# Altium integrated library Capacitors - Ceramic - 01005.IntLib: 571 symbols (part 12 of 13)
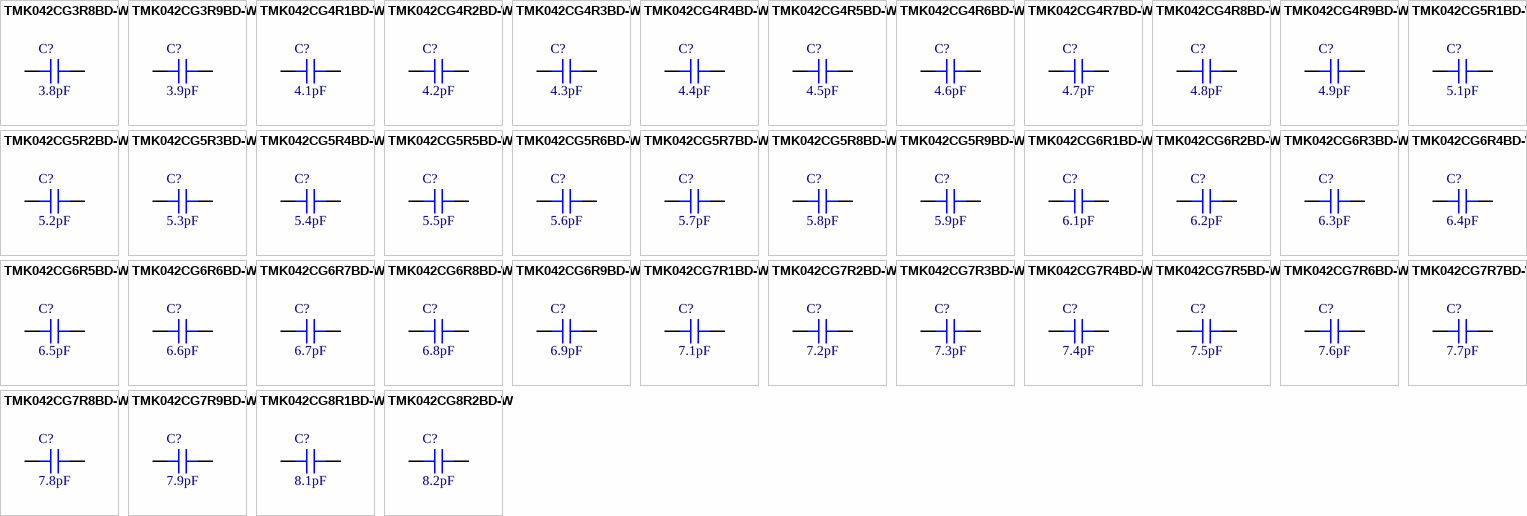
[diagram p25: symbols TMK042CG3R8BD-W to TMK042CG8R2BD-W]

## TMK042CG7R6BD-W
designator C?, comment 7.6pF
CAP CER 7.6PF 25V C0G/NP0 01005; Part Number: TMK042CG7R6BD-W; Manufacturer: Taiyo Yuden; Temperature Coefficient: C0G, NP0; Tolerance: ±0.1pF; Value: 7.6pF; Applications: General Purpose; Capacitance: 7.6pF; ComponentLink1Description: Datasheet; ComponentLink1URL: https://ds.yuden.co.jp/TYCOMPAS/ut/detail?pn=TMK042CG7R6BD-W &u=M; ComponentLink2Description: DigiKey Link; ComponentLink2URL: http://digikey.com/product-detail/en/taiyo-yuden/TMK042CG7R6BD-W/587-5731-1-ND/7431259; Device Package: 01005 (0402 Metric); LastUpdated: 9/2/2020 1:27:43 AM; Lifecycle Status: Active; Minimum Order: 1; Mounting Type: Surface Mount, MLCC; Operating Temperature: -55°C ~ 125°C; Package / Case: 01005 (0402 Metric); Packaging: TapeAndReel; Part Status: Active; Price: 0.01; Series: M; Size / Dimension: 0.016" L x 0.008" W (0.40mm x 0.20mm); Supplier 1: DigiKey; Supplier Part Number 1: 587-5731-1-ND; Thickness (Max): 0.009" (0.22mm); Voltage - Rated: 25V
footprint CAP 01005_0402
pins: 1, 2

## TMK042CG7R7BD-W
designator C?, comment 7.7pF
CAP CER 7.7PF 25V C0G/NP0 01005; Part Number: TMK042CG7R7BD-W; Manufacturer: Taiyo Yuden; Temperature Coefficient: C0G, NP0; Tolerance: ±0.1pF; Value: 7.7pF; Applications: General Purpose; Capacitance: 7.7pF; ComponentLink1Description: Datasheet; ComponentLink1URL: https://ds.yuden.co.jp/TYCOMPAS/ut/detail?pn=TMK042CG7R7BD-W &u=M; ComponentLink2Description: DigiKey Link; ComponentLink2URL: http://digikey.com/product-detail/en/taiyo-yuden/TMK042CG7R7BD-W/587-5732-1-ND/7431260; Device Package: 01005 (0402 Metric); LastUpdated: 9/2/2020 1:27:43 AM; Lifecycle Status: Active; Minimum Order: 1; Mounting Type: Surface Mount, MLCC; Operating Temperature: -55°C ~ 125°C; Package / Case: 01005 (0402 Metric); Packaging: TapeAndReel; Part Status: Active; Price: 0.01; Series: M; Size / Dimension: 0.016" L x 0.008" W (0.40mm x 0.20mm); Supplier 1: DigiKey; Supplier Part Number 1: 587-5732-1-ND; Thickness (Max): 0.009" (0.22mm); Voltage - Rated: 25V
footprint CAP 01005_0402
pins: 1, 2

## TMK042CG7R8BD-W
designator C?, comment 7.8pF
CAP CER 7.8PF 25V C0G/NP0 01005; Part Number: TMK042CG7R8BD-W; Manufacturer: Taiyo Yuden; Temperature Coefficient: C0G, NP0; Tolerance: ±0.1pF; Value: 7.8pF; Applications: General Purpose; Capacitance: 7.8pF; ComponentLink1Description: Datasheet; ComponentLink1URL: https://ds.yuden.co.jp/TYCOMPAS/ut/detail?pn=TMK042CG7R8BD-W &u=M; ComponentLink2Description: DigiKey Link; ComponentLink2URL: http://digikey.com/product-detail/en/taiyo-yuden/TMK042CG7R8BD-W/587-5733-1-ND/7431261; Device Package: 01005 (0402 Metric); LastUpdated: 9/2/2020 1:27:43 AM; Lifecycle Status: Active; Minimum Order: 1; Mounting Type: Surface Mount, MLCC; Operating Temperature: -55°C ~ 125°C; Package / Case: 01005 (0402 Metric); Packaging: TapeAndReel; Part Status: Active; Price: 0.01; Series: M; Size / Dimension: 0.016" L x 0.008" W (0.40mm x 0.20mm); Supplier 1: DigiKey; Supplier Part Number 1: 587-5733-1-ND; Thickness (Max): 0.009" (0.22mm); Voltage - Rated: 25V
footprint CAP 01005_0402
pins: 1, 2

## TMK042CG7R9BD-W
designator C?, comment 7.9pF
CAP CER 7.9PF 25V C0G/NP0 01005; Part Number: TMK042CG7R9BD-W; Manufacturer: Taiyo Yuden; Temperature Coefficient: C0G, NP0; Tolerance: ±0.1pF; Value: 7.9pF; Applications: General Purpose; Capacitance: 7.9pF; ComponentLink1Description: Datasheet; ComponentLink1URL: https://ds.yuden.co.jp/TYCOMPAS/ut/detail?pn=TMK042CG7R9BD-W &u=M; ComponentLink2Description: DigiKey Link; ComponentLink2URL: http://digikey.com/product-detail/en/taiyo-yuden/TMK042CG7R9BD-W/587-5734-1-ND/7431262; Device Package: 01005 (0402 Metric); LastUpdated: 9/2/2020 1:27:43 AM; Lifecycle Status: Active; Minimum Order: 1; Mounting Type: Surface Mount, MLCC; Operating Temperature: -55°C ~ 125°C; Package / Case: 01005 (0402 Metric); Packaging: TapeAndReel; Part Status: Active; Price: 0.01; Series: M; Size / Dimension: 0.016" L x 0.008" W (0.40mm x 0.20mm); Supplier 1: DigiKey; Supplier Part Number 1: 587-5734-1-ND; Thickness (Max): 0.009" (0.22mm); Voltage - Rated: 25V
footprint CAP 01005_0402
pins: 1, 2

## TMK042CG8R1BD-W
designator C?, comment 8.1pF
CAP CER 8.1PF 25V C0G/NP0 01005; Part Number: TMK042CG8R1BD-W; Manufacturer: Taiyo Yuden; Temperature Coefficient: C0G, NP0; Tolerance: ±0.1pF; Value: 8.1pF; Applications: General Purpose; Capacitance: 8.1pF; ComponentLink1Description: Datasheet; ComponentLink1URL: https://ds.yuden.co.jp/TYCOMPAS/ut/detail?pn=TMK042CG8R1BD-W &u=M; ComponentLink2Description: DigiKey Link; ComponentLink2URL: http://digikey.com/product-detail/en/taiyo-yuden/TMK042CG8R1BD-W/587-5736-1-ND/7431264; Device Package: 01005 (0402 Metric); LastUpdated: 9/2/2020 1:27:43 AM; Lifecycle Status: Active; Minimum Order: 1; Mounting Type: Surface Mount, MLCC; Operating Temperature: -55°C ~ 125°C; Package / Case: 01005 (0402 Metric); Packaging: TapeAndReel; Part Status: Active; Price: 0.01; Series: M; Size / Dimension: 0.016" L x 0.008" W (0.40mm x 0.20mm); Supplier 1: DigiKey; Supplier Part Number 1: 587-5736-1-ND; Thickness (Max): 0.009" (0.22mm); Voltage - Rated: 25V
footprint CAP 01005_0402
pins: 1, 2

## TMK042CG8R2BD-W
designator C?, comment 8.2pF
CAP CER 8.2PF 25V C0G/NP0 01005; Part Number: TMK042CG8R2BD-W; Manufacturer: Taiyo Yuden; Temperature Coefficient: C0G, NP0; Tolerance: ±0.1pF; Value: 8.2pF; Applications: General Purpose; Capacitance: 8.2pF; ComponentLink1Description: Datasheet; ComponentLink1URL: https://ds.yuden.co.jp/TYCOMPAS/ut/detail?pn=TMK042CG8R2BD-W &u=M; ComponentLink2Description: DigiKey Link; ComponentLink2URL: http://digikey.com/product-detail/en/taiyo-yuden/TMK042CG8R2BD-W/587-5737-1-ND/7431265; Device Package: 01005 (0402 Metric); LastUpdated: 9/2/2020 1:27:43 AM; Lifecycle Status: Active; Minimum Order: 1; Mounting Type: Surface Mount, MLCC; Operating Temperature: -55°C ~ 125°C; Package / Case: 01005 (0402 Metric); Packaging: TapeAndReel; Part Status: Active; Price: 0.01; Series: M; Size / Dimension: 0.016" L x 0.008" W (0.40mm x 0.20mm); Supplier 1: DigiKey; Supplier Part Number 1: 587-5737-1-ND; Thickness (Max): 0.009" (0.22mm); Voltage - Rated: 25V
footprint CAP 01005_0402
pins: 1, 2

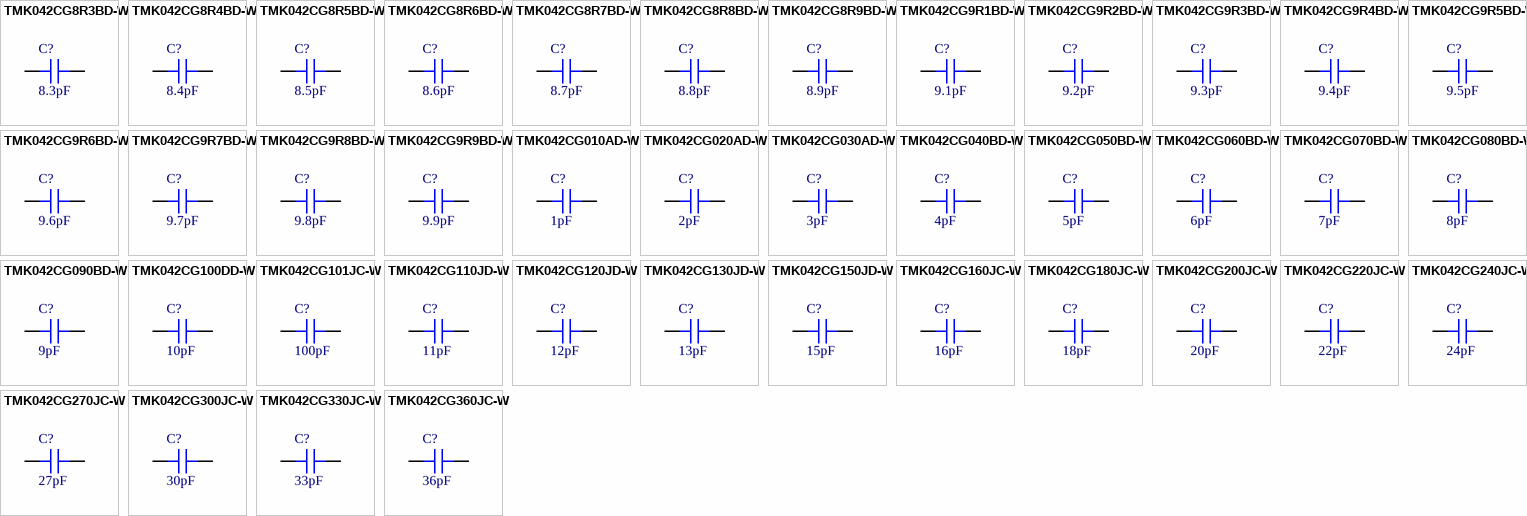
[diagram p13: symbols TMK042CG8R3BD-W to TMK042CG360JC-W]

## TMK042CG8R3BD-W
designator C?, comment 8.3pF
CAP CER 8.3PF 25V C0G/NP0 01005; Part Number: TMK042CG8R3BD-W; Manufacturer: Taiyo Yuden; Temperature Coefficient: C0G, NP0; Tolerance: ±0.1pF; Value: 8.3pF; Applications: General Purpose; Capacitance: 8.3pF; ComponentLink1Description: Datasheet; ComponentLink1URL: https://ds.yuden.co.jp/TYCOMPAS/ut/detail?pn=TMK042CG8R3BD-W &u=M; ComponentLink2Description: DigiKey Link; ComponentLink2URL: http://digikey.com/product-detail/en/taiyo-yuden/TMK042CG8R3BD-W/587-5738-1-ND/7431266; Device Package: 01005 (0402 Metric); LastUpdated: 9/2/2020 1:27:43 AM; Lifecycle Status: Active; Minimum Order: 1; Mounting Type: Surface Mount, MLCC; Operating Temperature: -55°C ~ 125°C; Package / Case: 01005 (0402 Metric); Packaging: TapeAndReel; Part Status: Active; Price: 0.01; Series: M; Size / Dimension: 0.016" L x 0.008" W (0.40mm x 0.20mm); Supplier 1: DigiKey; Supplier Part Number 1: 587-5738-1-ND; Thickness (Max): 0.009" (0.22mm); Voltage - Rated: 25V
footprint CAP 01005_0402
pins: 1, 2

## TMK042CG8R4BD-W
designator C?, comment 8.4pF
CAP CER 8.4PF 25V C0G/NP0 01005; Part Number: TMK042CG8R4BD-W; Manufacturer: Taiyo Yuden; Temperature Coefficient: C0G, NP0; Tolerance: ±0.1pF; Value: 8.4pF; Applications: General Purpose; Capacitance: 8.4pF; ComponentLink1Description: Datasheet; ComponentLink1URL: https://ds.yuden.co.jp/TYCOMPAS/ut/detail?pn=TMK042CG8R4BD-W &u=M; ComponentLink2Description: DigiKey Link; ComponentLink2URL: http://digikey.com/product-detail/en/taiyo-yuden/TMK042CG8R4BD-W/587-5739-1-ND/7431267; Device Package: 01005 (0402 Metric); LastUpdated: 9/2/2020 1:27:43 AM; Lifecycle Status: Active; Minimum Order: 1; Mounting Type: Surface Mount, MLCC; Operating Temperature: -55°C ~ 125°C; Package / Case: 01005 (0402 Metric); Packaging: TapeAndReel; Part Status: Active; Price: 0.01; Series: M; Size / Dimension: 0.016" L x 0.008" W (0.40mm x 0.20mm); Supplier 1: DigiKey; Supplier Part Number 1: 587-5739-1-ND; Thickness (Max): 0.009" (0.22mm); Voltage - Rated: 25V
footprint CAP 01005_0402
pins: 1, 2

## TMK042CG8R5BD-W
designator C?, comment 8.5pF
CAP CER 8.5PF 25V C0G/NP0 01005; Part Number: TMK042CG8R5BD-W; Manufacturer: Taiyo Yuden; Temperature Coefficient: C0G, NP0; Tolerance: ±0.1pF; Value: 8.5pF; Applications: General Purpose; Capacitance: 8.5pF; ComponentLink1Description: Datasheet; ComponentLink1URL: https://ds.yuden.co.jp/TYCOMPAS/ut/detail?pn=TMK042CG8R5BD-W &u=M; ComponentLink2Description: DigiKey Link; ComponentLink2URL: http://digikey.com/product-detail/en/taiyo-yuden/TMK042CG8R5BD-W/587-5740-1-ND/7431268; Device Package: 01005 (0402 Metric); LastUpdated: 9/2/2020 1:27:43 AM; Lifecycle Status: Active; Minimum Order: 1; Mounting Type: Surface Mount, MLCC; Operating Temperature: -55°C ~ 125°C; Package / Case: 01005 (0402 Metric); Packaging: TapeAndReel; Part Status: Active; Price: 0.01; Series: M; Size / Dimension: 0.016" L x 0.008" W (0.40mm x 0.20mm); Supplier 1: DigiKey; Supplier Part Number 1: 587-5740-1-ND; Thickness (Max): 0.009" (0.22mm); Voltage - Rated: 25V
footprint CAP 01005_0402
pins: 1, 2

## TMK042CG8R6BD-W
designator C?, comment 8.6pF
CAP CER 8.6PF 25V C0G/NP0 01005; Part Number: TMK042CG8R6BD-W; Manufacturer: Taiyo Yuden; Temperature Coefficient: C0G, NP0; Tolerance: ±0.1pF; Value: 8.6pF; Applications: General Purpose; Capacitance: 8.6pF; ComponentLink1Description: Datasheet; ComponentLink1URL: https://ds.yuden.co.jp/TYCOMPAS/ut/detail?pn=TMK042CG8R6BD-W &u=M; ComponentLink2Description: DigiKey Link; ComponentLink2URL: http://digikey.com/product-detail/en/taiyo-yuden/TMK042CG8R6BD-W/587-5741-1-ND/7431269; Device Package: 01005 (0402 Metric); LastUpdated: 9/2/2020 1:27:43 AM; Lifecycle Status: Active; Minimum Order: 1; Mounting Type: Surface Mount, MLCC; Operating Temperature: -55°C ~ 125°C; Package / Case: 01005 (0402 Metric); Packaging: TapeAndReel; Part Status: Active; Price: 0.01; Series: M; Size / Dimension: 0.016" L x 0.008" W (0.40mm x 0.20mm); Supplier 1: DigiKey; Supplier Part Number 1: 587-5741-1-ND; Thickness (Max): 0.009" (0.22mm); Voltage - Rated: 25V
footprint CAP 01005_0402
pins: 1, 2

## TMK042CG8R7BD-W
designator C?, comment 8.7pF
CAP CER 8.7PF 25V C0G/NP0 01005; Part Number: TMK042CG8R7BD-W; Manufacturer: Taiyo Yuden; Temperature Coefficient: C0G, NP0; Tolerance: ±0.1pF; Value: 8.7pF; Applications: General Purpose; Capacitance: 8.7pF; ComponentLink1Description: Datasheet; ComponentLink1URL: https://ds.yuden.co.jp/TYCOMPAS/ut/detail?pn=TMK042CG8R7BD-W &u=M; ComponentLink2Description: DigiKey Link; ComponentLink2URL: http://digikey.com/product-detail/en/taiyo-yuden/TMK042CG8R7BD-W/587-5742-1-ND/7431270; Device Package: 01005 (0402 Metric); LastUpdated: 9/2/2020 1:27:43 AM; Lifecycle Status: Active; Minimum Order: 1; Mounting Type: Surface Mount, MLCC; Operating Temperature: -55°C ~ 125°C; Package / Case: 01005 (0402 Metric); Packaging: TapeAndReel; Part Status: Active; Price: 0.01; Series: M; Size / Dimension: 0.016" L x 0.008" W (0.40mm x 0.20mm); Supplier 1: DigiKey; Supplier Part Number 1: 587-5742-1-ND; Thickness (Max): 0.009" (0.22mm); Voltage - Rated: 25V
footprint CAP 01005_0402
pins: 1, 2

## TMK042CG8R8BD-W
designator C?, comment 8.8pF
CAP CER 8.8PF 25V C0G/NP0 01005; Part Number: TMK042CG8R8BD-W; Manufacturer: Taiyo Yuden; Temperature Coefficient: C0G, NP0; Tolerance: ±0.1pF; Value: 8.8pF; Applications: General Purpose; Capacitance: 8.8pF; ComponentLink1Description: Datasheet; ComponentLink1URL: https://ds.yuden.co.jp/TYCOMPAS/ut/detail?pn=TMK042CG8R8BD-W &u=M; ComponentLink2Description: DigiKey Link; ComponentLink2URL: http://digikey.com/product-detail/en/taiyo-yuden/TMK042CG8R8BD-W/587-5743-1-ND/7431271; Device Package: 01005 (0402 Metric); LastUpdated: 9/2/2020 1:27:43 AM; Lifecycle Status: Active; Minimum Order: 1; Mounting Type: Surface Mount, MLCC; Operating Temperature: -55°C ~ 125°C; Package / Case: 01005 (0402 Metric); Packaging: TapeAndReel; Part Status: Active; Price: 0.01; Series: M; Size / Dimension: 0.016" L x 0.008" W (0.40mm x 0.20mm); Supplier 1: DigiKey; Supplier Part Number 1: 587-5743-1-ND; Thickness (Max): 0.009" (0.22mm); Voltage - Rated: 25V
footprint CAP 01005_0402
pins: 1, 2

## TMK042CG8R9BD-W
designator C?, comment 8.9pF
CAP CER 8.9PF 25V C0G/NP0 01005; Part Number: TMK042CG8R9BD-W; Manufacturer: Taiyo Yuden; Temperature Coefficient: C0G, NP0; Tolerance: ±0.1pF; Value: 8.9pF; Applications: General Purpose; Capacitance: 8.9pF; ComponentLink1Description: Datasheet; ComponentLink1URL: https://ds.yuden.co.jp/TYCOMPAS/ut/detail?pn=TMK042CG8R9BD-W &u=M; ComponentLink2Description: DigiKey Link; ComponentLink2URL: http://digikey.com/product-detail/en/taiyo-yuden/TMK042CG8R9BD-W/587-5744-1-ND/7431272; Device Package: 01005 (0402 Metric); LastUpdated: 9/2/2020 1:27:43 AM; Lifecycle Status: Active; Minimum Order: 1; Mounting Type: Surface Mount, MLCC; Operating Temperature: -55°C ~ 125°C; Package / Case: 01005 (0402 Metric); Packaging: TapeAndReel; Part Status: Active; Price: 0.01; Series: M; Size / Dimension: 0.016" L x 0.008" W (0.40mm x 0.20mm); Supplier 1: DigiKey; Supplier Part Number 1: 587-5744-1-ND; Thickness (Max): 0.009" (0.22mm); Voltage - Rated: 25V
footprint CAP 01005_0402
pins: 1, 2

## TMK042CG9R1BD-W
designator C?, comment 9.1pF
CAP CER 9.1PF 25V C0G/NP0 01005; Part Number: TMK042CG9R1BD-W; Manufacturer: Taiyo Yuden; Temperature Coefficient: C0G, NP0; Tolerance: ±0.1pF; Value: 9.1pF; Applications: General Purpose; Capacitance: 9.1pF; ComponentLink1Description: Datasheet; ComponentLink1URL: https://ds.yuden.co.jp/TYCOMPAS/ut/detail?pn=TMK042CG9R1BD-W &u=M; ComponentLink2Description: DigiKey Link; ComponentLink2URL: http://digikey.com/product-detail/en/taiyo-yuden/TMK042CG9R1BD-W/587-5746-1-ND/7431274; Device Package: 01005 (0402 Metric); LastUpdated: 9/2/2020 1:27:43 AM; Lifecycle Status: Active; Minimum Order: 1; Mounting Type: Surface Mount, MLCC; Operating Temperature: -55°C ~ 125°C; Package / Case: 01005 (0402 Metric); Packaging: TapeAndReel; Part Status: Active; Price: 0.01; Series: M; Size / Dimension: 0.016" L x 0.008" W (0.40mm x 0.20mm); Supplier 1: DigiKey; Supplier Part Number 1: 587-5746-1-ND; Thickness (Max): 0.009" (0.22mm); Voltage - Rated: 25V
footprint CAP 01005_0402
pins: 1, 2

## TMK042CG9R2BD-W
designator C?, comment 9.2pF
CAP CER 9.2PF 25V C0G/NP0 01005; Part Number: TMK042CG9R2BD-W; Manufacturer: Taiyo Yuden; Temperature Coefficient: C0G, NP0; Tolerance: ±0.1pF; Value: 9.2pF; Applications: General Purpose; Capacitance: 9.2pF; ComponentLink1Description: Datasheet; ComponentLink1URL: https://ds.yuden.co.jp/TYCOMPAS/ut/detail?pn=TMK042CG9R2BD-W &u=M; ComponentLink2Description: DigiKey Link; ComponentLink2URL: http://digikey.com/product-detail/en/taiyo-yuden/TMK042CG9R2BD-W/587-5747-1-ND/7431275; Device Package: 01005 (0402 Metric); LastUpdated: 9/2/2020 1:27:43 AM; Lifecycle Status: Active; Minimum Order: 1; Mounting Type: Surface Mount, MLCC; Operating Temperature: -55°C ~ 125°C; Package / Case: 01005 (0402 Metric); Packaging: TapeAndReel; Part Status: Active; Price: 0.01; Series: M; Size / Dimension: 0.016" L x 0.008" W (0.40mm x 0.20mm); Supplier 1: DigiKey; Supplier Part Number 1: 587-5747-1-ND; Thickness (Max): 0.009" (0.22mm); Voltage - Rated: 25V
footprint CAP 01005_0402
pins: 1, 2

## TMK042CG9R3BD-W
designator C?, comment 9.3pF
CAP CER 9.3PF 25V C0G/NP0 01005; Part Number: TMK042CG9R3BD-W; Manufacturer: Taiyo Yuden; Temperature Coefficient: C0G, NP0; Tolerance: ±0.1pF; Value: 9.3pF; Applications: General Purpose; Capacitance: 9.3pF; ComponentLink1Description: Datasheet; ComponentLink1URL: https://ds.yuden.co.jp/TYCOMPAS/ut/detail?pn=TMK042CG9R3BD-W &u=M; ComponentLink2Description: DigiKey Link; ComponentLink2URL: http://digikey.com/product-detail/en/taiyo-yuden/TMK042CG9R3BD-W/587-5748-1-ND/7431276; Device Package: 01005 (0402 Metric); LastUpdated: 9/2/2020 1:27:43 AM; Lifecycle Status: Active; Minimum Order: 1; Mounting Type: Surface Mount, MLCC; Operating Temperature: -55°C ~ 125°C; Package / Case: 01005 (0402 Metric); Packaging: TapeAndReel; Part Status: Active; Price: 0.01; Series: M; Size / Dimension: 0.016" L x 0.008" W (0.40mm x 0.20mm); Supplier 1: DigiKey; Supplier Part Number 1: 587-5748-1-ND; Thickness (Max): 0.009" (0.22mm); Voltage - Rated: 25V
footprint CAP 01005_0402
pins: 1, 2

## TMK042CG9R4BD-W
designator C?, comment 9.4pF
CAP CER 9.4PF 25V C0G/NP0 01005; Part Number: TMK042CG9R4BD-W; Manufacturer: Taiyo Yuden; Temperature Coefficient: C0G, NP0; Tolerance: ±0.1pF; Value: 9.4pF; Applications: General Purpose; Capacitance: 9.4pF; ComponentLink1Description: Datasheet; ComponentLink1URL: https://ds.yuden.co.jp/TYCOMPAS/ut/detail?pn=TMK042CG9R4BD-W &u=M; ComponentLink2Description: DigiKey Link; ComponentLink2URL: http://digikey.com/product-detail/en/taiyo-yuden/TMK042CG9R4BD-W/587-5749-1-ND/7431277; Device Package: 01005 (0402 Metric); LastUpdated: 9/2/2020 1:27:43 AM; Lifecycle Status: Active; Minimum Order: 1; Mounting Type: Surface Mount, MLCC; Operating Temperature: -55°C ~ 125°C; Package / Case: 01005 (0402 Metric); Packaging: TapeAndReel; Part Status: Active; Price: 0.01; Series: M; Size / Dimension: 0.016" L x 0.008" W (0.40mm x 0.20mm); Supplier 1: DigiKey; Supplier Part Number 1: 587-5749-1-ND; Thickness (Max): 0.009" (0.22mm); Voltage - Rated: 25V
footprint CAP 01005_0402
pins: 1, 2

## TMK042CG9R5BD-W
designator C?, comment 9.5pF
CAP CER 9.5PF 25V C0G/NP0 01005; Part Number: TMK042CG9R5BD-W; Manufacturer: Taiyo Yuden; Temperature Coefficient: C0G, NP0; Tolerance: ±0.1pF; Value: 9.5pF; Applications: General Purpose; Capacitance: 9.5pF; ComponentLink1Description: Datasheet; ComponentLink1URL: https://ds.yuden.co.jp/TYCOMPAS/ut/detail?pn=TMK042CG9R5BD-W &u=M; ComponentLink2Description: DigiKey Link; ComponentLink2URL: http://digikey.com/product-detail/en/taiyo-yuden/TMK042CG9R5BD-W/587-5750-1-ND/7431278; Device Package: 01005 (0402 Metric); LastUpdated: 9/2/2020 1:27:43 AM; Lifecycle Status: Active; Minimum Order: 1; Mounting Type: Surface Mount, MLCC; Operating Temperature: -55°C ~ 125°C; Package / Case: 01005 (0402 Metric); Packaging: TapeAndReel; Part Status: Active; Price: 0.01; Series: M; Size / Dimension: 0.016" L x 0.008" W (0.40mm x 0.20mm); Supplier 1: DigiKey; Supplier Part Number 1: 587-5750-1-ND; Thickness (Max): 0.009" (0.22mm); Voltage - Rated: 25V
footprint CAP 01005_0402
pins: 1, 2

## TMK042CG9R6BD-W
designator C?, comment 9.6pF
CAP CER 9.6PF 25V C0G/NP0 01005; Part Number: TMK042CG9R6BD-W; Manufacturer: Taiyo Yuden; Temperature Coefficient: C0G, NP0; Tolerance: ±0.1pF; Value: 9.6pF; Applications: General Purpose; Capacitance: 9.6pF; ComponentLink1Description: Datasheet; ComponentLink1URL: https://ds.yuden.co.jp/TYCOMPAS/ut/detail?pn=TMK042CG9R6BD-W &u=M; ComponentLink2Description: DigiKey Link; ComponentLink2URL: http://digikey.com/product-detail/en/taiyo-yuden/TMK042CG9R6BD-W/587-5751-1-ND/7431279; Device Package: 01005 (0402 Metric); LastUpdated: 9/2/2020 1:27:43 AM; Lifecycle Status: Active; Minimum Order: 1; Mounting Type: Surface Mount, MLCC; Operating Temperature: -55°C ~ 125°C; Package / Case: 01005 (0402 Metric); Packaging: TapeAndReel; Part Status: Active; Price: 0.01; Series: M; Size / Dimension: 0.016" L x 0.008" W (0.40mm x 0.20mm); Supplier 1: DigiKey; Supplier Part Number 1: 587-5751-1-ND; Thickness (Max): 0.009" (0.22mm); Voltage - Rated: 25V
footprint CAP 01005_0402
pins: 1, 2

## TMK042CG9R7BD-W
designator C?, comment 9.7pF
CAP CER 9.7PF 25V C0G/NP0 01005; Part Number: TMK042CG9R7BD-W; Manufacturer: Taiyo Yuden; Temperature Coefficient: C0G, NP0; Tolerance: ±0.1pF; Value: 9.7pF; Applications: General Purpose; Capacitance: 9.7pF; ComponentLink1Description: Datasheet; ComponentLink1URL: https://ds.yuden.co.jp/TYCOMPAS/ut/detail?pn=TMK042CG9R7BD-W &u=M; ComponentLink2Description: DigiKey Link; ComponentLink2URL: http://digikey.com/product-detail/en/taiyo-yuden/TMK042CG9R7BD-W/587-5752-1-ND/7431280; Device Package: 01005 (0402 Metric); LastUpdated: 9/2/2020 1:27:43 AM; Lifecycle Status: Active; Minimum Order: 1; Mounting Type: Surface Mount, MLCC; Operating Temperature: -55°C ~ 125°C; Package / Case: 01005 (0402 Metric); Packaging: TapeAndReel; Part Status: Active; Price: 0.01; Series: M; Size / Dimension: 0.016" L x 0.008" W (0.40mm x 0.20mm); Supplier 1: DigiKey; Supplier Part Number 1: 587-5752-1-ND; Thickness (Max): 0.009" (0.22mm); Voltage - Rated: 25V
footprint CAP 01005_0402
pins: 1, 2

## TMK042CG9R8BD-W
designator C?, comment 9.8pF
CAP CER 9.8PF 25V C0G/NP0 01005; Part Number: TMK042CG9R8BD-W; Manufacturer: Taiyo Yuden; Temperature Coefficient: C0G, NP0; Tolerance: ±0.1pF; Value: 9.8pF; Applications: General Purpose; Capacitance: 9.8pF; ComponentLink1Description: Datasheet; ComponentLink1URL: https://ds.yuden.co.jp/TYCOMPAS/ut/detail?pn=TMK042CG9R8BD-W &u=M; ComponentLink2Description: DigiKey Link; ComponentLink2URL: http://digikey.com/product-detail/en/taiyo-yuden/TMK042CG9R8BD-W/587-5753-1-ND/7431281; Device Package: 01005 (0402 Metric); LastUpdated: 9/2/2020 1:27:43 AM; Lifecycle Status: Active; Minimum Order: 1; Mounting Type: Surface Mount, MLCC; Operating Temperature: -55°C ~ 125°C; Package / Case: 01005 (0402 Metric); Packaging: TapeAndReel; Part Status: Active; Price: 0.01; Series: M; Size / Dimension: 0.016" L x 0.008" W (0.40mm x 0.20mm); Supplier 1: DigiKey; Supplier Part Number 1: 587-5753-1-ND; Thickness (Max): 0.009" (0.22mm); Voltage - Rated: 25V
footprint CAP 01005_0402
pins: 1, 2

## TMK042CG9R9BD-W
designator C?, comment 9.9pF
CAP CER 9.9PF 25V C0G/NP0 01005; Part Number: TMK042CG9R9BD-W; Manufacturer: Taiyo Yuden; Temperature Coefficient: C0G, NP0; Tolerance: ±0.1pF; Value: 9.9pF; Applications: General Purpose; Capacitance: 9.9pF; ComponentLink1Description: Datasheet; ComponentLink1URL: https://ds.yuden.co.jp/TYCOMPAS/ut/detail?pn=TMK042CG9R9BD-W &u=M; ComponentLink2Description: DigiKey Link; ComponentLink2URL: http://digikey.com/product-detail/en/taiyo-yuden/TMK042CG9R9BD-W/587-5754-1-ND/7431282; Device Package: 01005 (0402 Metric); LastUpdated: 9/2/2020 1:27:43 AM; Lifecycle Status: Active; Minimum Order: 1; Mounting Type: Surface Mount, MLCC; Operating Temperature: -55°C ~ 125°C; Package / Case: 01005 (0402 Metric); Packaging: TapeAndReel; Part Status: Active; Price: 0.01; Series: M; Size / Dimension: 0.016" L x 0.008" W (0.40mm x 0.20mm); Supplier 1: DigiKey; Supplier Part Number 1: 587-5754-1-ND; Thickness (Max): 0.009" (0.22mm); Voltage - Rated: 25V
footprint CAP 01005_0402
pins: 1, 2

## TMK042CG010AD-W
designator C?, comment 1pF
CAP CER 1PF 25V C0G/NP0 01005; Part Number: TMK042CG010AD-W; Manufacturer: Taiyo Yuden; Temperature Coefficient: C0G, NP0; Tolerance: ±0.05pF; Value: 1pF; Applications: General Purpose; Capacitance: 1pF; ComponentLink1Description: Datasheet; ComponentLink1URL: https://ds.yuden.co.jp/TYCOMPAS/ut/detail?pn=TMK042CG010AD-W &u=M; ComponentLink2Description: DigiKey Link; ComponentLink2URL: http://digikey.com/product-detail/en/taiyo-yuden/TMK042CG010AD-W/587-5665-1-ND/7431193; Device Package: 01005 (0402 Metric); LastUpdated: 9/2/2020 1:27:43 AM; Lifecycle Status: Active; Minimum Order: 1; Mounting Type: Surface Mount, MLCC; Operating Temperature: -55°C ~ 125°C; Package / Case: 01005 (0402 Metric); Packaging: TapeAndReel; Part Status: Active; Price: 0.01; Series: M; Size / Dimension: 0.016" L x 0.008" W (0.40mm x 0.20mm); Supplier 1: DigiKey; Supplier Part Number 1: 587-5665-1-ND; Thickness (Max): 0.009" (0.22mm); Voltage - Rated: 25V
footprint CAP 01005_0402
pins: 1, 2

## TMK042CG020AD-W
designator C?, comment 2pF
CAP CER 2PF 25V C0G/NP0 01005; Part Number: TMK042CG020AD-W; Manufacturer: Taiyo Yuden; Temperature Coefficient: C0G, NP0; Tolerance: ±0.05pF; Value: 2pF; Applications: General Purpose; Capacitance: 2pF; ComponentLink1Description: Datasheet; ComponentLink1URL: https://ds.yuden.co.jp/TYCOMPAS/ut/detail?pn=TMK042CG020AD-W &u=M; ComponentLink2Description: DigiKey Link; ComponentLink2URL: http://digikey.com/product-detail/en/taiyo-yuden/TMK042CG020AD-W/587-5675-1-ND/7431203; Device Package: 01005 (0402 Metric); LastUpdated: 9/2/2020 1:27:43 AM; Lifecycle Status: Active; Minimum Order: 1; Mounting Type: Surface Mount, MLCC; Operating Temperature: -55°C ~ 125°C; Package / Case: 01005 (0402 Metric); Packaging: TapeAndReel; Part Status: Active; Price: 0.01; Series: M; Size / Dimension: 0.016" L x 0.008" W (0.40mm x 0.20mm); Supplier 1: DigiKey; Supplier Part Number 1: 587-5675-1-ND; Thickness (Max): 0.009" (0.22mm); Voltage - Rated: 25V
footprint CAP 01005_0402
pins: 1, 2

## TMK042CG030AD-W
designator C?, comment 3pF
CAP CER 3PF 25V C0G/NP0 01005; Part Number: TMK042CG030AD-W; Manufacturer: Taiyo Yuden; Temperature Coefficient: C0G, NP0; Tolerance: ±0.05pF; Value: 3pF; Applications: General Purpose; Capacitance: 3pF; ComponentLink1Description: Datasheet; ComponentLink1URL: https://ds.yuden.co.jp/TYCOMPAS/ut/detail?pn=TMK042CG030AD-W &u=M; ComponentLink2Description: DigiKey Link; ComponentLink2URL: http://digikey.com/product-detail/en/taiyo-yuden/TMK042CG030AD-W/587-5685-1-ND/7431213; Device Package: 01005 (0402 Metric); LastUpdated: 9/2/2020 1:27:43 AM; Lifecycle Status: Active; Minimum Order: 1; Mounting Type: Surface Mount, MLCC; Operating Temperature: -55°C ~ 125°C; Package / Case: 01005 (0402 Metric); Packaging: TapeAndReel; Part Status: Active; Price: 0.01; Series: M; Size / Dimension: 0.016" L x 0.008" W (0.40mm x 0.20mm); Supplier 1: DigiKey; Supplier Part Number 1: 587-5685-1-ND; Thickness (Max): 0.009" (0.22mm); Voltage - Rated: 25V
footprint CAP 01005_0402
pins: 1, 2

## TMK042CG040BD-W
designator C?, comment 4pF
CAP CER 4PF 25V C0G/NP0 01005; Part Number: TMK042CG040BD-W; Manufacturer: Taiyo Yuden; Temperature Coefficient: C0G, NP0; Tolerance: ±0.1pF; Value: 4pF; Applications: General Purpose; Capacitance: 4pF; ComponentLink1Description: Datasheet; ComponentLink1URL: https://ds.yuden.co.jp/TYCOMPAS/ut/detail?pn=TMK042CG040BD-W &u=M; ComponentLink2Description: DigiKey Link; ComponentLink2URL: http://digikey.com/product-detail/en/taiyo-yuden/TMK042CG040BD-W/587-5695-1-ND/7431223; Device Package: 01005 (0402 Metric); LastUpdated: 9/2/2020 1:27:43 AM; Lifecycle Status: Active; Minimum Order: 1; Mounting Type: Surface Mount, MLCC; Operating Temperature: -55°C ~ 125°C; Package / Case: 01005 (0402 Metric); Packaging: TapeAndReel; Part Status: Active; Price: 0.01; Series: M; Size / Dimension: 0.016" L x 0.008" W (0.40mm x 0.20mm); Supplier 1: DigiKey; Supplier Part Number 1: 587-5695-1-ND; Thickness (Max): 0.009" (0.22mm); Voltage - Rated: 25V
footprint CAP 01005_0402
pins: 1, 2

## TMK042CG050BD-W
designator C?, comment 5pF
CAP CER 5PF 25V C0G/NP0 01005; Part Number: TMK042CG050BD-W; Manufacturer: Taiyo Yuden; Temperature Coefficient: C0G, NP0; Tolerance: ±0.1pF; Value: 5pF; Applications: General Purpose; Capacitance: 5pF; ComponentLink1Description: Datasheet; ComponentLink1URL: https://ds.yuden.co.jp/TYCOMPAS/ut/detail?pn=TMK042CG050BD-W &u=M; ComponentLink2Description: DigiKey Link; ComponentLink2URL: http://digikey.com/product-detail/en/taiyo-yuden/TMK042CG050BD-W/587-5705-1-ND/7431233; Device Package: 01005 (0402 Metric); LastUpdated: 9/2/2020 1:27:43 AM; Lifecycle Status: Active; Minimum Order: 1; Mounting Type: Surface Mount, MLCC; Operating Temperature: -55°C ~ 125°C; Package / Case: 01005 (0402 Metric); Packaging: TapeAndReel; Part Status: Active; Price: 0.01; Series: M; Size / Dimension: 0.016" L x 0.008" W (0.40mm x 0.20mm); Supplier 1: DigiKey; Supplier Part Number 1: 587-5705-1-ND; Thickness (Max): 0.009" (0.22mm); Voltage - Rated: 25V
footprint CAP 01005_0402
pins: 1, 2

## TMK042CG060BD-W
designator C?, comment 6pF
CAP CER 6PF 25V C0G/NP0 01005; Part Number: TMK042CG060BD-W; Manufacturer: Taiyo Yuden; Temperature Coefficient: C0G, NP0; Tolerance: ±0.1pF; Value: 6pF; Applications: General Purpose; Capacitance: 6pF; ComponentLink1Description: Datasheet; ComponentLink1URL: https://ds.yuden.co.jp/TYCOMPAS/ut/detail?pn=TMK042CG060BD-W &u=M; ComponentLink2Description: DigiKey Link; ComponentLink2URL: http://digikey.com/product-detail/en/taiyo-yuden/TMK042CG060BD-W/587-5715-1-ND/7431243; Device Package: 01005 (0402 Metric); LastUpdated: 9/2/2020 1:27:43 AM; Lifecycle Status: Active; Minimum Order: 1; Mounting Type: Surface Mount, MLCC; Operating Temperature: -55°C ~ 125°C; Package / Case: 01005 (0402 Metric); Packaging: TapeAndReel; Part Status: Active; Price: 0.01; Series: M; Size / Dimension: 0.016" L x 0.008" W (0.40mm x 0.20mm); Supplier 1: DigiKey; Supplier Part Number 1: 587-5715-1-ND; Thickness (Max): 0.009" (0.22mm); Voltage - Rated: 25V
footprint CAP 01005_0402
pins: 1, 2

## TMK042CG070BD-W
designator C?, comment 7pF
CAP CER 7PF 25V C0G/NP0 01005; Part Number: TMK042CG070BD-W; Manufacturer: Taiyo Yuden; Temperature Coefficient: C0G, NP0; Tolerance: ±0.1pF; Value: 7pF; Applications: General Purpose; Capacitance: 7pF; ComponentLink1Description: Datasheet; ComponentLink1URL: https://ds.yuden.co.jp/TYCOMPAS/ut/detail?pn=TMK042CG070BD-W &u=M; ComponentLink2Description: DigiKey Link; ComponentLink2URL: http://digikey.com/product-detail/en/taiyo-yuden/TMK042CG070BD-W/587-5725-1-ND/7431253; Device Package: 01005 (0402 Metric); LastUpdated: 9/2/2020 1:27:44 AM; Lifecycle Status: Active; Minimum Order: 1; Mounting Type: Surface Mount, MLCC; Operating Temperature: -55°C ~ 125°C; Package / Case: 01005 (0402 Metric); Packaging: TapeAndReel; Part Status: Active; Price: 0.01; Series: M; Size / Dimension: 0.016" L x 0.008" W (0.40mm x 0.20mm); Supplier 1: DigiKey; Supplier Part Number 1: 587-5725-1-ND; Thickness (Max): 0.009" (0.22mm); Voltage - Rated: 25V
footprint CAP 01005_0402
pins: 1, 2

## TMK042CG080BD-W
designator C?, comment 8pF
CAP CER 8PF 25V C0G/NP0 01005; Part Number: TMK042CG080BD-W; Manufacturer: Taiyo Yuden; Temperature Coefficient: C0G, NP0; Tolerance: ±0.1pF; Value: 8pF; Applications: General Purpose; Capacitance: 8pF; ComponentLink1Description: Datasheet; ComponentLink1URL: https://ds.yuden.co.jp/TYCOMPAS/ut/detail?pn=TMK042CG080BD-W &u=M; ComponentLink2Description: DigiKey Link; ComponentLink2URL: http://digikey.com/product-detail/en/taiyo-yuden/TMK042CG080BD-W/587-5735-1-ND/7431263; Device Package: 01005 (0402 Metric); LastUpdated: 9/2/2020 1:27:43 AM; Lifecycle Status: Active; Minimum Order: 1; Mounting Type: Surface Mount, MLCC; Operating Temperature: -55°C ~ 125°C; Package / Case: 01005 (0402 Metric); Packaging: TapeAndReel; Part Status: Active; Price: 0.01; Series: M; Size / Dimension: 0.016" L x 0.008" W (0.40mm x 0.20mm); Supplier 1: DigiKey; Supplier Part Number 1: 587-5735-1-ND; Thickness (Max): 0.009" (0.22mm); Voltage - Rated: 25V
footprint CAP 01005_0402
pins: 1, 2

## TMK042CG090BD-W
designator C?, comment 9pF
CAP CER 9PF 25V C0G/NP0 01005; Part Number: TMK042CG090BD-W; Manufacturer: Taiyo Yuden; Temperature Coefficient: C0G, NP0; Tolerance: ±0.1pF; Value: 9pF; Applications: General Purpose; Capacitance: 9pF; ComponentLink1Description: Datasheet; ComponentLink1URL: https://ds.yuden.co.jp/TYCOMPAS/ut/detail?pn=TMK042CG090BD-W &u=M; ComponentLink2Description: DigiKey Link; ComponentLink2URL: http://digikey.com/product-detail/en/taiyo-yuden/TMK042CG090BD-W/587-5745-1-ND/7431273; Device Package: 01005 (0402 Metric); LastUpdated: 9/2/2020 1:27:43 AM; Lifecycle Status: Active; Minimum Order: 1; Mounting Type: Surface Mount, MLCC; Operating Temperature: -55°C ~ 125°C; Package / Case: 01005 (0402 Metric); Packaging: TapeAndReel; Part Status: Active; Price: 0.01; Series: M; Size / Dimension: 0.016" L x 0.008" W (0.40mm x 0.20mm); Supplier 1: DigiKey; Supplier Part Number 1: 587-5745-1-ND; Thickness (Max): 0.009" (0.22mm); Voltage - Rated: 25V
footprint CAP 01005_0402
pins: 1, 2

## TMK042CG100DD-W
designator C?, comment 10pF
CAP CER 10PF 25V C0G/NP0 01005; Part Number: TMK042CG100DD-W; Manufacturer: Taiyo Yuden; Temperature Coefficient: C0G, NP0; Tolerance: ±0.5pF; Value: 10pF; Applications: General Purpose; Capacitance: 10pF; ComponentLink1Description: Datasheet; ComponentLink1URL: https://ds.yuden.co.jp/TYCOMPAS/ut/detail?pn=TMK042CG100DD-W &u=M; ComponentLink2Description: DigiKey Link; ComponentLink2URL: http://digikey.com/product-detail/en/taiyo-yuden/TMK042CG100DD-W/587-5755-1-ND/7431283; Device Package: 01005 (0402 Metric); LastUpdated: 9/2/2020 1:27:44 AM; Lifecycle Status: Active; Minimum Order: 1; Mounting Type: Surface Mount, MLCC; Operating Temperature: -55°C ~ 125°C; Package / Case: 01005 (0402 Metric); Packaging: TapeAndReel; Part Status: Active; Price: 0.01; Series: M; Size / Dimension: 0.016" L x 0.008" W (0.40mm x 0.20mm); Supplier 1: DigiKey; Supplier Part Number 1: 587-5755-1-ND; Thickness (Max): 0.009" (0.22mm); Voltage - Rated: 25V
footprint CAP 01005_0402
pins: 1, 2

## TMK042CG101JC-W
designator C?, comment 100pF
CAP CER 100PF 25V C0G/NP0 01005; Part Number: TMK042CG101JC-W; Manufacturer: Taiyo Yuden; Temperature Coefficient: C0G, NP0; Tolerance: ±5%; Value: 100pF; Applications: General Purpose; Capacitance: 100pF; ComponentLink1Description: Datasheet; ComponentLink1URL: https://ds.yuden.co.jp/TYCOMPAS/ut/detail?pn=TMK042CG101JC-W &u=M; ComponentLink2Description: DigiKey Link; ComponentLink2URL: http://digikey.com/product-detail/en/taiyo-yuden/TMK042CG101JC-W/587-5779-1-ND/7431307; Device Package: 01005 (0402 Metric); LastUpdated: 9/2/2020 1:27:44 AM; Lifecycle Status: Active; Minimum Order: 1; Mounting Type: Surface Mount, MLCC; Operating Temperature: -55°C ~ 125°C; Package / Case: 01005 (0402 Metric); Packaging: TapeAndReel; Part Status: Active; Price: 0.01; Series: M; Size / Dimension: 0.016" L x 0.008" W (0.40mm x 0.20mm); Supplier 1: DigiKey; Supplier Part Number 1: 587-5779-1-ND; Thickness (Max): 0.009" (0.22mm); Voltage - Rated: 25V
footprint CAP 01005_0402
pins: 1, 2

## TMK042CG110JD-W
designator C?, comment 11pF
CAP CER 11PF 25V C0G/NP0 01005; Part Number: TMK042CG110JD-W; Manufacturer: Taiyo Yuden; Temperature Coefficient: C0G, NP0; Tolerance: ±5%; Value: 11pF; Applications: General Purpose; Capacitance: 11pF; ComponentLink1Description: Datasheet; ComponentLink1URL: https://ds.yuden.co.jp/TYCOMPAS/ut/detail?pn=TMK042CG110JD-W &u=M; ComponentLink2Description: DigiKey Link; ComponentLink2URL: http://digikey.com/product-detail/en/taiyo-yuden/TMK042CG110JD-W/587-5756-1-ND/7431284; Device Package: 01005 (0402 Metric); LastUpdated: 9/2/2020 1:27:43 AM; Lifecycle Status: Active; Minimum Order: 1; Mounting Type: Surface Mount, MLCC; Operating Temperature: -55°C ~ 125°C; Package / Case: 01005 (0402 Metric); Packaging: TapeAndReel; Part Status: Active; Price: 0.01; Series: M; Size / Dimension: 0.016" L x 0.008" W (0.40mm x 0.20mm); Supplier 1: DigiKey; Supplier Part Number 1: 587-5756-1-ND; Thickness (Max): 0.009" (0.22mm); Voltage - Rated: 25V
footprint CAP 01005_0402
pins: 1, 2

## TMK042CG120JD-W
designator C?, comment 12pF
CAP CER 12PF 25V C0G/NP0 01005; Part Number: TMK042CG120JD-W; Manufacturer: Taiyo Yuden; Temperature Coefficient: C0G, NP0; Tolerance: ±5%; Value: 12pF; Applications: General Purpose; Capacitance: 12pF; ComponentLink1Description: Datasheet; ComponentLink1URL: https://ds.yuden.co.jp/TYCOMPAS/ut/detail?pn=TMK042CG120JD-W &u=M; ComponentLink2Description: DigiKey Link; ComponentLink2URL: http://digikey.com/product-detail/en/taiyo-yuden/TMK042CG120JD-W/587-5757-1-ND/7431285; Device Package: 01005 (0402 Metric); LastUpdated: 9/2/2020 1:27:43 AM; Lifecycle Status: Active; Minimum Order: 1; Mounting Type: Surface Mount, MLCC; Operating Temperature: -55°C ~ 125°C; Package / Case: 01005 (0402 Metric); Packaging: TapeAndReel; Part Status: Active; Price: 0.01; Series: M; Size / Dimension: 0.016" L x 0.008" W (0.40mm x 0.20mm); Supplier 1: DigiKey; Supplier Part Number 1: 587-5757-1-ND; Thickness (Max): 0.009" (0.22mm); Voltage - Rated: 25V
footprint CAP 01005_0402
pins: 1, 2

## TMK042CG130JD-W
designator C?, comment 13pF
CAP CER 13PF 25V C0G/NP0 01005; Part Number: TMK042CG130JD-W; Manufacturer: Taiyo Yuden; Temperature Coefficient: C0G, NP0; Tolerance: ±5%; Value: 13pF; Applications: General Purpose; Capacitance: 13pF; ComponentLink1Description: Datasheet; ComponentLink1URL: https://ds.yuden.co.jp/TYCOMPAS/ut/detail?pn=TMK042CG130JD-W &u=M; ComponentLink2Description: DigiKey Link; ComponentLink2URL: http://digikey.com/product-detail/en/taiyo-yuden/TMK042CG130JD-W/587-5758-1-ND/7431286; Device Package: 01005 (0402 Metric); LastUpdated: 9/2/2020 1:27:43 AM; Lifecycle Status: Active; Minimum Order: 1; Mounting Type: Surface Mount, MLCC; Operating Temperature: -55°C ~ 125°C; Package / Case: 01005 (0402 Metric); Packaging: TapeAndReel; Part Status: Active; Price: 0.01; Series: M; Size / Dimension: 0.016" L x 0.008" W (0.40mm x 0.20mm); Supplier 1: DigiKey; Supplier Part Number 1: 587-5758-1-ND; Thickness (Max): 0.009" (0.22mm); Voltage - Rated: 25V
footprint CAP 01005_0402
pins: 1, 2

## TMK042CG150JD-W
designator C?, comment 15pF
CAP CER 15PF 25V C0G/NP0 01005; Part Number: TMK042CG150JD-W; Manufacturer: Taiyo Yuden; Temperature Coefficient: C0G, NP0; Tolerance: ±5%; Value: 15pF; Applications: General Purpose; Capacitance: 15pF; ComponentLink1Description: Datasheet; ComponentLink1URL: https://ds.yuden.co.jp/TYCOMPAS/ut/detail?pn=TMK042CG150JD-W &u=M; ComponentLink2Description: DigiKey Link; ComponentLink2URL: http://digikey.com/product-detail/en/taiyo-yuden/TMK042CG150JD-W/587-5759-1-ND/7431287; Device Package: 01005 (0402 Metric); LastUpdated: 9/2/2020 1:27:44 AM; Lifecycle Status: Active; Minimum Order: 1; Mounting Type: Surface Mount, MLCC; Operating Temperature: -55°C ~ 125°C; Package / Case: 01005 (0402 Metric); Packaging: TapeAndReel; Part Status: Active; Price: 0.01; Series: M; Size / Dimension: 0.016" L x 0.008" W (0.40mm x 0.20mm); Supplier 1: DigiKey; Supplier Part Number 1: 587-5759-1-ND; Thickness (Max): 0.009" (0.22mm); Voltage - Rated: 25V
footprint CAP 01005_0402
pins: 1, 2

## TMK042CG160JC-W
designator C?, comment 16pF
CAP CER 16PF 25V C0G/NP0 01005; Part Number: TMK042CG160JC-W; Manufacturer: Taiyo Yuden; Temperature Coefficient: C0G, NP0; Tolerance: ±5%; Value: 16pF; Applications: General Purpose; Capacitance: 16pF; ComponentLink1Description: Datasheet; ComponentLink1URL: https://ds.yuden.co.jp/TYCOMPAS/ut/detail?pn=TMK042CG160JC-W &u=M; ComponentLink2Description: DigiKey Link; ComponentLink2URL: http://digikey.com/product-detail/en/taiyo-yuden/TMK042CG160JC-W/587-5760-1-ND/7431288; Device Package: 01005 (0402 Metric); LastUpdated: 9/2/2020 1:27:43 AM; Lifecycle Status: Active; Minimum Order: 1; Mounting Type: Surface Mount, MLCC; Operating Temperature: -55°C ~ 125°C; Package / Case: 01005 (0402 Metric); Packaging: TapeAndReel; Part Status: Active; Price: 0.01; Series: M; Size / Dimension: 0.016" L x 0.008" W (0.40mm x 0.20mm); Supplier 1: DigiKey; Supplier Part Number 1: 587-5760-1-ND; Thickness (Max): 0.009" (0.22mm); Voltage - Rated: 25V
footprint CAP 01005_0402
pins: 1, 2

## TMK042CG180JC-W
designator C?, comment 18pF
CAP CER 18PF 25V C0G/NP0 01005; Part Number: TMK042CG180JC-W; Manufacturer: Taiyo Yuden; Temperature Coefficient: C0G, NP0; Tolerance: ±5%; Value: 18pF; Applications: General Purpose; Capacitance: 18pF; ComponentLink1Description: Datasheet; ComponentLink1URL: https://ds.yuden.co.jp/TYCOMPAS/ut/detail?pn=TMK042CG180JC-W &u=M; ComponentLink2Description: DigiKey Link; ComponentLink2URL: http://digikey.com/product-detail/en/taiyo-yuden/TMK042CG180JC-W/587-5761-1-ND/7431289; Device Package: 01005 (0402 Metric); LastUpdated: 9/2/2020 1:27:43 AM; Lifecycle Status: Active; Minimum Order: 1; Mounting Type: Surface Mount, MLCC; Operating Temperature: -55°C ~ 125°C; Package / Case: 01005 (0402 Metric); Packaging: TapeAndReel; Part Status: Active; Price: 0.01; Series: M; Size / Dimension: 0.016" L x 0.008" W (0.40mm x 0.20mm); Supplier 1: DigiKey; Supplier Part Number 1: 587-5761-1-ND; Thickness (Max): 0.009" (0.22mm); Voltage - Rated: 25V
footprint CAP 01005_0402
pins: 1, 2

## TMK042CG200JC-W
designator C?, comment 20pF
CAP CER 20PF 25V C0G/NP0 01005; Part Number: TMK042CG200JC-W; Manufacturer: Taiyo Yuden; Temperature Coefficient: C0G, NP0; Tolerance: ±5%; Value: 20pF; Applications: General Purpose; Capacitance: 20pF; ComponentLink1Description: Datasheet; ComponentLink1URL: https://ds.yuden.co.jp/TYCOMPAS/ut/detail?pn=TMK042CG200JC-W &u=M; ComponentLink2Description: DigiKey Link; ComponentLink2URL: http://digikey.com/product-detail/en/taiyo-yuden/TMK042CG200JC-W/587-5762-1-ND/7431290; Device Package: 01005 (0402 Metric); LastUpdated: 9/2/2020 1:27:43 AM; Lifecycle Status: Active; Minimum Order: 1; Mounting Type: Surface Mount, MLCC; Operating Temperature: -55°C ~ 125°C; Package / Case: 01005 (0402 Metric); Packaging: TapeAndReel; Part Status: Active; Price: 0.01; Series: M; Size / Dimension: 0.016" L x 0.008" W (0.40mm x 0.20mm); Supplier 1: DigiKey; Supplier Part Number 1: 587-5762-1-ND; Thickness (Max): 0.009" (0.22mm); Voltage - Rated: 25V
footprint CAP 01005_0402
pins: 1, 2

## TMK042CG220JC-W
designator C?, comment 22pF
CAP CER 22PF 25V C0G/NP0 01005; Part Number: TMK042CG220JC-W; Manufacturer: Taiyo Yuden; Temperature Coefficient: C0G, NP0; Tolerance: ±5%; Value: 22pF; Applications: General Purpose; Capacitance: 22pF; ComponentLink1Description: Datasheet; ComponentLink1URL: https://ds.yuden.co.jp/TYCOMPAS/ut/detail?pn=TMK042CG220JC-W &u=M; ComponentLink2Description: DigiKey Link; ComponentLink2URL: http://digikey.com/product-detail/en/taiyo-yuden/TMK042CG220JC-W/587-5763-1-ND/7431291; Device Package: 01005 (0402 Metric); LastUpdated: 9/2/2020 1:27:43 AM; Lifecycle Status: Active; Minimum Order: 1; Mounting Type: Surface Mount, MLCC; Operating Temperature: -55°C ~ 125°C; Package / Case: 01005 (0402 Metric); Packaging: CutTape; Part Status: Active; Price: 0.10; Series: M; Size / Dimension: 0.016" L x 0.008" W (0.40mm x 0.20mm); Supplier 1: DigiKey; Supplier Part Number 1: 587-5763-1-ND; Thickness (Max): 0.009" (0.22mm); Voltage - Rated: 25V
footprint CAP 01005_0402
pins: 1, 2

## TMK042CG240JC-W
designator C?, comment 24pF
CAP CER 24PF 25V C0G/NP0 01005; Part Number: TMK042CG240JC-W; Manufacturer: Taiyo Yuden; Temperature Coefficient: C0G, NP0; Tolerance: ±5%; Value: 24pF; Applications: General Purpose; Capacitance: 24pF; ComponentLink1Description: Datasheet; ComponentLink1URL: https://ds.yuden.co.jp/TYCOMPAS/ut/detail?pn=TMK042CG240JC-W &u=M; ComponentLink2Description: DigiKey Link; ComponentLink2URL: http://digikey.com/product-detail/en/taiyo-yuden/TMK042CG240JC-W/587-5764-1-ND/7431292; Device Package: 01005 (0402 Metric); LastUpdated: 9/2/2020 1:27:43 AM; Lifecycle Status: Active; Minimum Order: 1; Mounting Type: Surface Mount, MLCC; Operating Temperature: -55°C ~ 125°C; Package / Case: 01005 (0402 Metric); Packaging: TapeAndReel; Part Status: Active; Price: 0.01; Series: M; Size / Dimension: 0.016" L x 0.008" W (0.40mm x 0.20mm); Supplier 1: DigiKey; Supplier Part Number 1: 587-5764-1-ND; Thickness (Max): 0.009" (0.22mm); Voltage - Rated: 25V
footprint CAP 01005_0402
pins: 1, 2

## TMK042CG270JC-W
designator C?, comment 27pF
CAP CER 27PF 25V C0G/NP0 01005; Part Number: TMK042CG270JC-W; Manufacturer: Taiyo Yuden; Temperature Coefficient: C0G, NP0; Tolerance: ±5%; Value: 27pF; Applications: General Purpose; Capacitance: 27pF; ComponentLink1Description: Datasheet; ComponentLink1URL: https://ds.yuden.co.jp/TYCOMPAS/ut/detail?pn=TMK042CG270JC-W &u=M; ComponentLink2Description: DigiKey Link; ComponentLink2URL: http://digikey.com/product-detail/en/taiyo-yuden/TMK042CG270JC-W/587-5765-1-ND/7431293; Device Package: 01005 (0402 Metric); LastUpdated: 9/2/2020 1:27:43 AM; Lifecycle Status: Active; Minimum Order: 1; Mounting Type: Surface Mount, MLCC; Operating Temperature: -55°C ~ 125°C; Package / Case: 01005 (0402 Metric); Packaging: TapeAndReel; Part Status: Active; Price: 0.01; Series: M; Size / Dimension: 0.016" L x 0.008" W (0.40mm x 0.20mm); Supplier 1: DigiKey; Supplier Part Number 1: 587-5765-1-ND; Thickness (Max): 0.009" (0.22mm); Voltage - Rated: 25V
footprint CAP 01005_0402
pins: 1, 2

## TMK042CG300JC-W
designator C?, comment 30pF
CAP CER 30PF 25V C0G/NP0 01005; Part Number: TMK042CG300JC-W; Manufacturer: Taiyo Yuden; Temperature Coefficient: C0G, NP0; Tolerance: ±5%; Value: 30pF; Applications: General Purpose; Capacitance: 30pF; ComponentLink1Description: Datasheet; ComponentLink1URL: https://ds.yuden.co.jp/TYCOMPAS/ut/detail?pn=TMK042CG300JC-W &u=M; ComponentLink2Description: DigiKey Link; ComponentLink2URL: http://digikey.com/product-detail/en/taiyo-yuden/TMK042CG300JC-W/587-5766-1-ND/7431294; Device Package: 01005 (0402 Metric); LastUpdated: 9/2/2020 1:27:43 AM; Lifecycle Status: Active; Minimum Order: 1; Mounting Type: Surface Mount, MLCC; Operating Temperature: -55°C ~ 125°C; Package / Case: 01005 (0402 Metric); Packaging: TapeAndReel; Part Status: Active; Price: 0.01; Series: M; Size / Dimension: 0.016" L x 0.008" W (0.40mm x 0.20mm); Supplier 1: DigiKey; Supplier Part Number 1: 587-5766-1-ND; Thickness (Max): 0.009" (0.22mm); Voltage - Rated: 25V
footprint CAP 01005_0402
pins: 1, 2

## TMK042CG330JC-W
designator C?, comment 33pF
CAP CER 33PF 25V C0G/NP0 01005; Part Number: TMK042CG330JC-W; Manufacturer: Taiyo Yuden; Temperature Coefficient: C0G, NP0; Tolerance: ±5%; Value: 33pF; Applications: General Purpose; Capacitance: 33pF; ComponentLink1Description: Datasheet; ComponentLink1URL: https://ds.yuden.co.jp/TYCOMPAS/ut/detail?pn=TMK042CG330JC-W &u=M; ComponentLink2Description: DigiKey Link; ComponentLink2URL: http://digikey.com/product-detail/en/taiyo-yuden/TMK042CG330JC-W/587-5767-1-ND/7431295; Device Package: 01005 (0402 Metric); LastUpdated: 9/2/2020 1:27:43 AM; Lifecycle Status: Active; Minimum Order: 1; Mounting Type: Surface Mount, MLCC; Operating Temperature: -55°C ~ 125°C; Package / Case: 01005 (0402 Metric); Packaging: TapeAndReel; Part Status: Active; Price: 0.01; Series: M; Size / Dimension: 0.016" L x 0.008" W (0.40mm x 0.20mm); Supplier 1: DigiKey; Supplier Part Number 1: 587-5767-1-ND; Thickness (Max): 0.009" (0.22mm); Voltage - Rated: 25V
footprint CAP 01005_0402
pins: 1, 2

## TMK042CG360JC-W
designator C?, comment 36pF
CAP CER 36PF 25V C0G/NP0 01005; Part Number: TMK042CG360JC-W; Manufacturer: Taiyo Yuden; Temperature Coefficient: C0G, NP0; Tolerance: ±5%; Value: 36pF; Applications: General Purpose; Capacitance: 36pF; ComponentLink1Description: Datasheet; ComponentLink1URL: https://ds.yuden.co.jp/TYCOMPAS/ut/detail?pn=TMK042CG360JC-W &u=M; ComponentLink2Description: DigiKey Link; ComponentLink2URL: http://digikey.com/product-detail/en/taiyo-yuden/TMK042CG360JC-W/587-5768-1-ND/7431296; Device Package: 01005 (0402 Metric); LastUpdated: 9/2/2020 1:27:43 AM; Lifecycle Status: Active; Minimum Order: 1; Mounting Type: Surface Mount, MLCC; Operating Temperature: -55°C ~ 125°C; Package / Case: 01005 (0402 Metric); Packaging: TapeAndReel; Part Status: Active; Price: 0.01; Series: M; Size / Dimension: 0.016" L x 0.008" W (0.40mm x 0.20mm); Supplier 1: DigiKey; Supplier Part Number 1: 587-5768-1-ND; Thickness (Max): 0.009" (0.22mm); Voltage - Rated: 25V
footprint CAP 01005_0402
pins: 1, 2

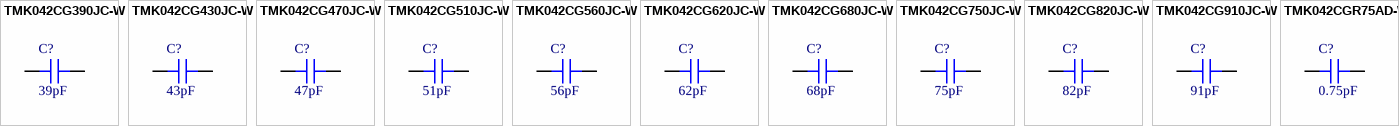
[diagram p14: symbols TMK042CG390JC-W to TMK042CGR75AD-W]

## TMK042CG390JC-W
designator C?, comment 39pF
CAP CER 39PF 25V C0G/NP0 01005; Part Number: TMK042CG390JC-W; Manufacturer: Taiyo Yuden; Temperature Coefficient: C0G, NP0; Tolerance: ±5%; Value: 39pF; Applications: General Purpose; Capacitance: 39pF; ComponentLink1Description: Datasheet; ComponentLink1URL: https://ds.yuden.co.jp/TYCOMPAS/ut/detail?pn=TMK042CG390JC-W &u=M; ComponentLink2Description: DigiKey Link; ComponentLink2URL: http://digikey.com/product-detail/en/taiyo-yuden/TMK042CG390JC-W/587-5769-1-ND/7431297; Device Package: 01005 (0402 Metric); LastUpdated: 9/2/2020 1:27:44 AM; Lifecycle Status: Active; Minimum Order: 1; Mounting Type: Surface Mount, MLCC; Operating Temperature: -55°C ~ 125°C; Package / Case: 01005 (0402 Metric); Packaging: TapeAndReel; Part Status: Active; Price: 0.01; Series: M; Size / Dimension: 0.016" L x 0.008" W (0.40mm x 0.20mm); Supplier 1: DigiKey; Supplier Part Number 1: 587-5769-1-ND; Thickness (Max): 0.009" (0.22mm); Voltage - Rated: 25V
footprint CAP 01005_0402
pins: 1, 2

## TMK042CG430JC-W
designator C?, comment 43pF
CAP CER 43PF 25V C0G/NP0 01005; Part Number: TMK042CG430JC-W; Manufacturer: Taiyo Yuden; Temperature Coefficient: C0G, NP0; Tolerance: ±5%; Value: 43pF; Applications: General Purpose; Capacitance: 43pF; ComponentLink1Description: Datasheet; ComponentLink1URL: https://ds.yuden.co.jp/TYCOMPAS/ut/detail?pn=TMK042CG430JC-W &u=M; ComponentLink2Description: DigiKey Link; ComponentLink2URL: http://digikey.com/product-detail/en/taiyo-yuden/TMK042CG430JC-W/587-5770-1-ND/7431298; Device Package: 01005 (0402 Metric); LastUpdated: 9/2/2020 1:27:43 AM; Lifecycle Status: Active; Minimum Order: 1; Mounting Type: Surface Mount, MLCC; Operating Temperature: -55°C ~ 125°C; Package / Case: 01005 (0402 Metric); Packaging: TapeAndReel; Part Status: Active; Price: 0.01; Series: M; Size / Dimension: 0.016" L x 0.008" W (0.40mm x 0.20mm); Supplier 1: DigiKey; Supplier Part Number 1: 587-5770-1-ND; Thickness (Max): 0.009" (0.22mm); Voltage - Rated: 25V
footprint CAP 01005_0402
pins: 1, 2